# Altium schematic symbol library my_altium_library.SchLib: 2 symbols
Pins are listed as number, name and electrical type; pins without a type are passive.

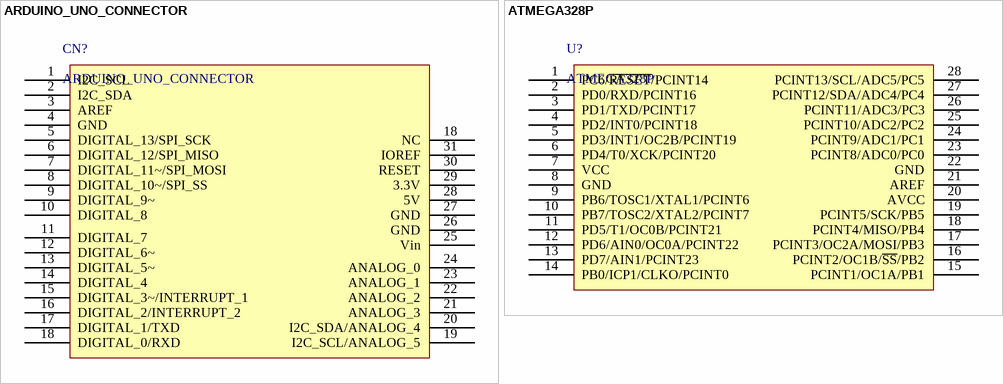
[diagram p0: symbols ARDUINO_UNO_CONNECTOR to ATMEGA328P]

## ARDUINO_UNO_CONNECTOR
designator CN?
Connector
footprint ARDUINO_UNO_CONNECTOR
pins: 1 I2C_SCL, 2 I2C_SDA, 3 AREF, 4 GND, 5 DIGITAL_13/SPI_SCK, 6 DIGITAL_12/SPI_MISO, 7 DIGITAL_11~/SPI_MOSI, 8 DIGITAL_10~/SPI_SS, 9 DIGITAL_9~, 10 DIGITAL_8, 11 DIGITAL_7, 12 DIGITAL_6~, 13 DIGITAL_5~, 14 DIGITAL_4, 15 DIGITAL_3~/INTERRUPT_1, 16 DIGITAL_2/INTERRUPT_2, 17 DIGITAL_1/TXD, 18 NC, 18 DIGITAL_0/RXD, 19 I2C_SCL/ANALOG_5, 20 I2C_SDA/ANALOG_4, 21 ANALOG_3, 22 ANALOG_2, 23 ANALOG_1, 24 ANALOG_0, 25 Vin, 26 GND, 27 GND, 28 5V, 29 3.3V, 30 RESET, 31 IOREF

## ATMEGA328P
designator U?
Microcontroller
footprint 28-PDIP
pins: 1 PC6/~{RESET}/PCINT14, 2 PD0/RXD/PCINT16, 3 PD1/TXD/PCINT17, 4 PD2/INT0/PCINT18, 5 PD3/INT1/OC2B/PCINT19, 6 PD4/T0/XCK/PCINT20, 7 VCC, 8 GND, 9 PB6/TOSC1/XTAL1/PCINT6, 10 PB7/TOSC2/XTAL2/PCINT7, 11 PD5/T1/OC0B/PCINT21, 12 PD6/AIN0/OC0A/PCINT22, 13 PD7/AIN1/PCINT23, 14 PB0/ICP1/CLKO/PCINT0, 15 PCINT1/OC1A/PB1, 16 PCINT2/OC1B/~{SS}/PB2, 17 PCINT3/OC2A/MOSI/PB3, 18 PCINT4/MISO/PB4, 19 PCINT5/SCK/PB5, 20 AVCC, 21 AREF, 22 GND, 23 PCINT8/ADC0/PC0, 24 PCINT9/ADC1/PC1, 25 PCINT10/ADC2/PC2, 26 PCINT11/ADC3/PC3, 27 PCINT12/SDA/ADC4/PC4, 28 PCINT13/SCL/ADC5/PC5